# EAGLE library part LCW-110-XX-X-S-RE (library con-samtec02)
Male Header - LCW Series
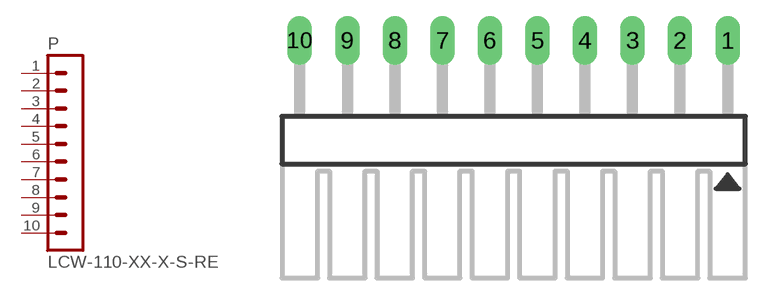
[diagram p12: symbol with the pads of LCW-110-XX-X-S-RE; footprint LCW-110-XX-X-S-RE]

Designator prefix P

## LCW-110-XX-X-S-RE  [LCW-110-XX-X-S-RE]
1  1  pas
2  2  pas
3  3  pas
4  4  pas
5  5  pas
6  6  pas
7  7  pas
8  8  pas
9  9  pas
10  10  pas

## Footprint LCW-110-XX-X-S-RE (pad centres in mm)
Samtec LCW Series right angle, friction lock strips, 0.025" square pins
drill 0.813 long: 1 11.43,0; 2 8.89,0; 3 6.35,0; 4 3.81,0; 5 1.27,0; 6 -1.27,0; 7 -3.81,0; 8 -6.35,0; 9 -8.89,0; 10 -11.43,0